# Altium schematic symbol library ARCOM_Resistors.SchLib: 194 symbols (part 2 of 3)
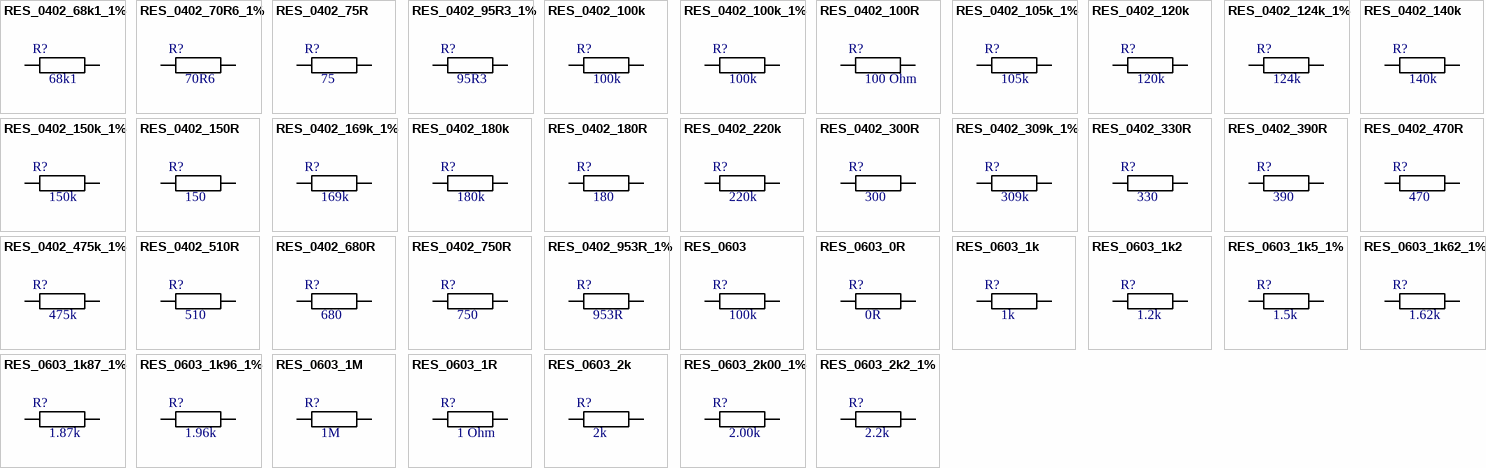
[diagram p5: symbols RES_0402_68k1_1% to RES_0603_2k2_1%]

## RES_0603_1M
designator R?  value 1M  (hidden comment: RES_0603_1M)
Chip Resistor 0603  Size; Manufacturer: Cal-Chip Electronics Inc.; Manufacturer P/N: RM06J105CT; Part: 1 Mohm, 5%tol.; ComponentLink1Description: Manufacturer; ComponentLink1URL: http://www.calchip.com; ComponentLink2Description: Datasheet; ComponentLink2URL: https://www.opendatasheets.com/datasheet/rm06j823ct-cal-chip-electronics-25652085.html; Family: Resistor
footprint RESC0603(1608)_L (Chip Resistor, Body 1.6x0.8mm, IPC High Density)
footprint RESC0603(1608)_M (Chip Resistor, Body 1.6x0.8mm, IPC Low Density)
footprint RESC0603(1608)_N (Chip Resistor, Body 1.6x0.8mm, IPC Medium Density)
pins: 1, 2

## RES_0603_1R
designator R?  value 1 Ohm  (hidden comment: RES_0603_1R)
Chip Resistor 0603  Size; Manufacturer: Yageo; Manufacturer P/N: RC0603JR-071RL; Part: 1 Ohm, 5%tol.; Family: Resistor; ComponentLink1Description: Manufacturer; ComponentLink1URL: https://www.yageo.com/en/Home; ComponentLink2Description: Datasheet; ComponentLink2URL: https://www.mouser.com/datasheet/2/447/PYu_RC_Group_51_RoHS_L_10-1664068.pdf
footprint RESC0603(1608)_N (Chip Resistor, Body 1.6x0.8mm, IPC Medium Density)
footprint RESC0603(1608)_L (Chip Resistor, Body 1.6x0.8mm, IPC High Density)
footprint RESC0603(1608)_M (Chip Resistor, Body 1.6x0.8mm, IPC Low Density)
pins: 1, 2

## RES_0603_2k
designator R?  value 2k  (hidden comment: RES_0603_2k)
Chip Resistor 0603  Size; Manufacturer: Cal-Chip Electronics Inc.; Manufacturer P/N: RM06J202CT; Part: 2 Kohm, 5%tol.; ComponentLink1Description: Manufacturer; ComponentLink1URL: http://www.calchip.com; ComponentLink2Description: Datasheet; ComponentLink2URL: https://www.opendatasheets.com/datasheet/rm06j823ct-cal-chip-electronics-25652085.html; Family: Resistor
footprint RESC0603(1608)_L (Chip Resistor, Body 1.6x0.8mm, IPC High Density)
footprint RESC0603(1608)_M (Chip Resistor, Body 1.6x0.8mm, IPC Low Density)
footprint RESC0603(1608)_N (Chip Resistor, Body 1.6x0.8mm, IPC Medium Density)
pins: 1, 2

## RES_0603_2k00_1%
designator R?  value 2.00k  (hidden comment: RES_0603_2k00_1%)
Chip Resistor 0603  Size; Manufacturer: Cal-Chip Electronics Inc.; Manufacturer P/N: RM06F2001CT-LF; Part: 2.00 Kohm, 1%tol.; ComponentLink1Description: Manufacturer; ComponentLink1URL: http://www.calchip.com; ComponentLink2Description: Datasheet; ComponentLink2URL: https://www.opendatasheets.com/datasheet/rm06j823ct-cal-chip-electronics-25652085.html; Family: Resistor
footprint RESC0603(1608)_L (Chip Resistor, Body 1.6x0.8mm, IPC High Density)
footprint RESC0603(1608)_M (Chip Resistor, Body 1.6x0.8mm, IPC Low Density)
footprint RESC0603(1608)_N (Chip Resistor, Body 1.6x0.8mm, IPC Medium Density)
pins: 1, 2

## RES_0603_2k2_1%
designator R?  value 2.2k  (hidden comment: RES_0603_2k2_1%)
Chip Resistor 0603  Size; Manufacturer: Cal-Chip Electronics Inc.; Manufacturer P/N: RM06F2201CT-LF; Part: 2.2 Kohm, 1%tol.; ComponentLink1Description: Manufacturer; ComponentLink1URL: http://www.calchip.com; ComponentLink2Description: Datasheet; ComponentLink2URL: https://www.opendatasheets.com/datasheet/rm06j823ct-cal-chip-electronics-25652085.html; Family: Resistor
footprint RESC0603(1608)_L (Chip Resistor, Body 1.6x0.8mm, IPC High Density)
footprint RESC0603(1608)_M (Chip Resistor, Body 1.6x0.8mm, IPC Low Density)
footprint RESC0603(1608)_N (Chip Resistor, Body 1.6x0.8mm, IPC Medium Density)
pins: 1, 2

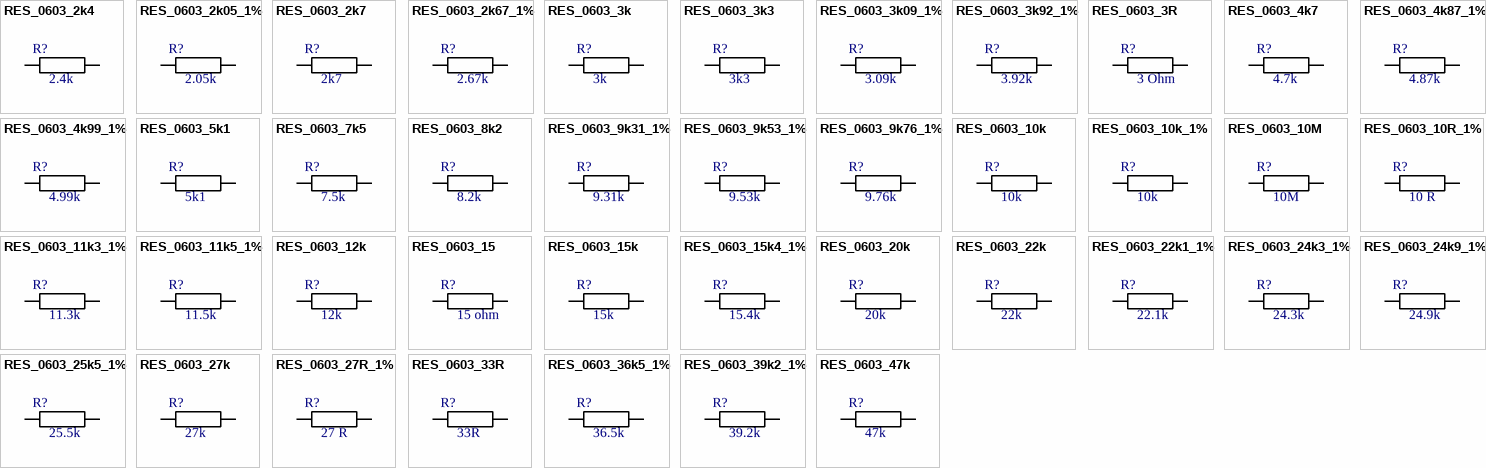
[diagram p2: symbols RES_0603_2k4 to RES_0603_47k]

## RES_0603_2k4
designator R?  value 2.4k  (hidden comment: RES_0603_2k4)
Chip Resistor 0603  Size; Manufacturer: Cal-Chip Electronics Inc.; Manufacturer P/N: RM06J242CT; Part: 2.4 Kohm, 5%tol.; ComponentLink1Description: Manufacturer; ComponentLink1URL: http://www.calchip.com; ComponentLink2Description: Datasheet; ComponentLink2URL: https://www.opendatasheets.com/datasheet/rm06j823ct-cal-chip-electronics-25652085.html; Family: Resistor
footprint RESC0603(1608)_L (Chip Resistor, Body 1.6x0.8mm, IPC High Density)
footprint RESC0603(1608)_M (Chip Resistor, Body 1.6x0.8mm, IPC Low Density)
footprint RESC0603(1608)_N (Chip Resistor, Body 1.6x0.8mm, IPC Medium Density)
pins: 1, 2

## RES_0603_2k05_1%
designator R?  value 2.05k  (hidden comment: RES_0603_2k05_1%)
Chip Resistor 0603  Size; Manufacturer: Cal-Chip Electronics Inc.; Manufacturer P/N: RM06F2051CT-LF; Part: 2.05 Kohm, 1%tol.; ComponentLink1Description: Manufacturer; ComponentLink1URL: http://www.calchip.com; ComponentLink2Description: Datasheet; ComponentLink2URL: https://www.opendatasheets.com/datasheet/rm06j823ct-cal-chip-electronics-25652085.html; Family: Resistor
footprint RESC0603(1608)_L (Chip Resistor, Body 1.6x0.8mm, IPC High Density)
footprint RESC0603(1608)_M (Chip Resistor, Body 1.6x0.8mm, IPC Low Density)
footprint RESC0603(1608)_N (Chip Resistor, Body 1.6x0.8mm, IPC Medium Density)
pins: 1, 2

## RES_0603_2k7
designator R?  value 2k7  (hidden comment: RES_0603_2k7)
Chip Resistor 0603  Size; Manufacturer: Cal-Chip Electronics Inc.; Manufacturer P/N: RM06J272CT; Part: 2.7 kohm, 5%tol.; ComponentLink1Description: Manufacturer; ComponentLink1URL: http://www.calchip.com; ComponentLink2Description: Datasheet; ComponentLink2URL: https://www.opendatasheets.com/datasheet/rm06j823ct-cal-chip-electronics-25652085.html; Family: Resistor
footprint RESC0603(1608)_L (Chip Resistor, Body 1.6x0.8mm, IPC High Density)
footprint RESC0603(1608)_M (Chip Resistor, Body 1.6x0.8mm, IPC Low Density)
footprint RESC0603(1608)_N (Chip Resistor, Body 1.6x0.8mm, IPC Medium Density)
pins: 1, 2

## RES_0603_2k67_1%
designator R?  value 2.67k  (hidden comment: RES_0603_2k67_1%)
Chip Resistor 0603  Size; Manufacturer: Cal-Chip Electronics Inc.; Manufacturer P/N: RM06F2671CT-LF; Part: 2.67 Kohm, 1%tol.; ComponentLink1Description: Manufacturer; ComponentLink1URL: http://www.calchip.com; ComponentLink2Description: Datasheet; ComponentLink2URL: https://www.opendatasheets.com/datasheet/rm06j823ct-cal-chip-electronics-25652085.html; Family: Resistor
footprint RESC0603(1608)_L (Chip Resistor, Body 1.6x0.8mm, IPC High Density)
footprint RESC0603(1608)_M (Chip Resistor, Body 1.6x0.8mm, IPC Low Density)
footprint RESC0603(1608)_N (Chip Resistor, Body 1.6x0.8mm, IPC Medium Density)
pins: 1, 2

## RES_0603_3k
designator R?  value 3k  (hidden comment: RES_0603_3k)
Chip Resistor 0603  Size; Manufacturer: Cal-Chip Electronics Inc.; Manufacturer P/N: RM06J302CT; Part: 3 kohm, 5%tol.; ComponentLink1Description: Manufacturer; ComponentLink1URL: http://www.calchip.com; ComponentLink2Description: Datasheet; ComponentLink2URL: https://www.opendatasheets.com/datasheet/rm06j823ct-cal-chip-electronics-25652085.html; Family: Resistor
footprint RESC0603(1608)_L (Chip Resistor, Body 1.6x0.8mm, IPC High Density)
footprint RESC0603(1608)_M (Chip Resistor, Body 1.6x0.8mm, IPC Low Density)
footprint RESC0603(1608)_N (Chip Resistor, Body 1.6x0.8mm, IPC Medium Density)
pins: 1, 2

## RES_0603_3k3
designator R?  value 3k3  (hidden comment: RES_0603_3k3)
Chip Resistor 0603  Size; Manufacturer: Cal-Chip Electronics Inc.; Manufacturer P/N: RM06J332CT; Part: 3.3 kohm, 5%tol.; ComponentLink1Description: Manufacturer; ComponentLink1URL: http://www.calchip.com; ComponentLink2Description: Datasheet; ComponentLink2URL: https://www.opendatasheets.com/datasheet/rm06j823ct-cal-chip-electronics-25652085.html; Family: Resistor
footprint RESC0603(1608)_L (Chip Resistor, Body 1.6x0.8mm, IPC High Density)
footprint RESC0603(1608)_M (Chip Resistor, Body 1.6x0.8mm, IPC Low Density)
footprint RESC0603(1608)_N (Chip Resistor, Body 1.6x0.8mm, IPC Medium Density)
pins: 1, 2

## RES_0603_3k09_1%
designator R?  value 3.09k  (hidden comment: RES_0603_3k09_1%)
Chip Resistor 0603  Size; Manufacturer: Cal-Chip Electronics Inc.; Manufacturer P/N: RM06F3091CT-LF; Part: 3.09 Kohm, 1%tol.; ComponentLink1Description: Manufacturer; ComponentLink1URL: http://www.calchip.com; ComponentLink2Description: Datasheet; ComponentLink2URL: https://www.opendatasheets.com/datasheet/rm06j823ct-cal-chip-electronics-25652085.html; Family: Resistor
footprint RESC0603(1608)_L (Chip Resistor, Body 1.6x0.8mm, IPC High Density)
footprint RESC0603(1608)_M (Chip Resistor, Body 1.6x0.8mm, IPC Low Density)
footprint RESC0603(1608)_N (Chip Resistor, Body 1.6x0.8mm, IPC Medium Density)
pins: 1, 2

## RES_0603_3k92_1%
designator R?  value 3.92k  (hidden comment: RES_0603_3k92_1%)
Chip Resistor 0603  Size; Manufacturer: Cal-Chip Electronics Inc.; Manufacturer P/N: RM06F3921CT-LF; Part: 3.92 Kohm, 1%tol.; ComponentLink1Description: Manufacturer; ComponentLink1URL: http://www.calchip.com; ComponentLink2Description: Datasheet; ComponentLink2URL: https://www.opendatasheets.com/datasheet/rm06j823ct-cal-chip-electronics-25652085.html; Family: Resistor
footprint RESC0603(1608)_L (Chip Resistor, Body 1.6x0.8mm, IPC High Density)
footprint RESC0603(1608)_M (Chip Resistor, Body 1.6x0.8mm, IPC Low Density)
footprint RESC0603(1608)_N (Chip Resistor, Body 1.6x0.8mm, IPC Medium Density)
pins: 1, 2

## RES_0603_3R
designator R?  value 3 Ohm  (hidden comment: RES_0603_3R)
Chip Resistor 0603  Size; Manufacturer: Yageo; Manufacturer P/N: RC0603JR-073RL; Part: 3 Ohm, 5%tol.; Family: Resistor; ComponentLink1Description: Manufacturer; ComponentLink1URL: https://www.yageo.com/en/Home; ComponentLink2Description: Datasheet; ComponentLink2URL: https://www.mouser.com/datasheet/2/447/PYu_RC_Group_51_RoHS_L_10-1664068.pdf
footprint RESC0603(1608)_N (Chip Resistor, Body 1.6x0.8mm, IPC Medium Density)
footprint RESC0603(1608)_L (Chip Resistor, Body 1.6x0.8mm, IPC High Density)
footprint RESC0603(1608)_M (Chip Resistor, Body 1.6x0.8mm, IPC Low Density)
pins: 1, 2

## RES_0603_4k7
designator R?  value 4.7k  (hidden comment: RES_0603_4k7)
Chip Resistor 0603  Size; Manufacturer: Cal-Chip Electronics Inc.; Manufacturer P/N: RM06J472CT; Part: 4.7 kohm, 5%tol.; ComponentLink1Description: Manufacturer; ComponentLink1URL: http://www.calchip.com; ComponentLink2Description: Datasheet; ComponentLink2URL: https://www.opendatasheets.com/datasheet/rm06j823ct-cal-chip-electronics-25652085.html; Family: Resistor
footprint RESC0603(1608)_L (Chip Resistor, Body 1.6x0.8mm, IPC High Density)
footprint RESC0603(1608)_M (Chip Resistor, Body 1.6x0.8mm, IPC Low Density)
footprint RESC0603(1608)_N (Chip Resistor, Body 1.6x0.8mm, IPC Medium Density)
pins: 1, 2

## RES_0603_4k87_1%
designator R?  value 4.87k  (hidden comment: RES_0603_4k87_1%)
Chip Resistor 0603  Size; Manufacturer: Cal-Chip Electronics Inc.; Manufacturer P/N: RM06F4871CT-LF; Part: 4.87 Kohm, 1%tol.; ComponentLink1Description: Manufacturer; ComponentLink1URL: http://www.calchip.com; ComponentLink2Description: Datasheet; ComponentLink2URL: https://www.opendatasheets.com/datasheet/rm06j823ct-cal-chip-electronics-25652085.html; Family: Resistor
footprint RESC0603(1608)_L (Chip Resistor, Body 1.6x0.8mm, IPC High Density)
footprint RESC0603(1608)_M (Chip Resistor, Body 1.6x0.8mm, IPC Low Density)
footprint RESC0603(1608)_N (Chip Resistor, Body 1.6x0.8mm, IPC Medium Density)
pins: 1, 2

## RES_0603_4k99_1%
designator R?  value 4.99k  (hidden comment: RES_0603_4k99_1%)
Chip Resistor 0603  Size; Manufacturer: Cal-Chip Electronics Inc.; Manufacturer P/N: RM06F4991CT-LF; Part: 4.99 Kohm, 1%tol.; ComponentLink1Description: Manufacturer; ComponentLink1URL: http://www.calchip.com; ComponentLink2Description: Datasheet; ComponentLink2URL: https://www.opendatasheets.com/datasheet/rm06j823ct-cal-chip-electronics-25652085.html; Family: Resistor
footprint RESC0603(1608)_L (Chip Resistor, Body 1.6x0.8mm, IPC High Density)
footprint RESC0603(1608)_M (Chip Resistor, Body 1.6x0.8mm, IPC Low Density)
footprint RESC0603(1608)_N (Chip Resistor, Body 1.6x0.8mm, IPC Medium Density)
pins: 1, 2

## RES_0603_5k1
designator R?  value 5k1  (hidden comment: RES_0603_5k1)
Chip Resistor 0603  Size; Manufacturer: Cal-Chip Electronics Inc.; Manufacturer P/N: RM06J512CT; Part: 5.1 Kohm, 5%tol.; ComponentLink1Description: Manufacturer; ComponentLink1URL: http://www.calchip.com; ComponentLink2Description: Datasheet; ComponentLink2URL: https://www.opendatasheets.com/datasheet/rm06j823ct-cal-chip-electronics-25652085.html; Family: Resistor
footprint RESC0603(1608)_L (Chip Resistor, Body 1.6x0.8mm, IPC High Density)
footprint RESC0603(1608)_M (Chip Resistor, Body 1.6x0.8mm, IPC Low Density)
footprint RESC0603(1608)_N (Chip Resistor, Body 1.6x0.8mm, IPC Medium Density)
pins: 1, 2

## RES_0603_7k5
designator R?  value 7.5k  (hidden comment: RES_0603_7k5)
Chip Resistor 0603  Size; Manufacturer: Cal-Chip Electronics Inc.; Manufacturer P/N: RM06J752CT; Part: 7.5 kohm, 5%tol.; ComponentLink1Description: Manufacturer; ComponentLink1URL: http://www.calchip.com; ComponentLink2Description: Datasheet; ComponentLink2URL: https://www.opendatasheets.com/datasheet/rm06j823ct-cal-chip-electronics-25652085.html; Family: Resistor
footprint RESC0603(1608)_L (Chip Resistor, Body 1.6x0.8mm, IPC High Density)
footprint RESC0603(1608)_M (Chip Resistor, Body 1.6x0.8mm, IPC Low Density)
footprint RESC0603(1608)_N (Chip Resistor, Body 1.6x0.8mm, IPC Medium Density)
pins: 1, 2

## RES_0603_8k2
designator R?  value 8.2k  (hidden comment: RES_0603_8k2)
Chip Resistor 0603  Size; Manufacturer: Cal-Chip Electronics Inc.; Manufacturer P/N: RM06J822CT; Part: 8.2 kohm, 5%tol.; ComponentLink1Description: Manufacturer; ComponentLink1URL: http://www.calchip.com; ComponentLink2Description: Datasheet; ComponentLink2URL: https://www.opendatasheets.com/datasheet/rm06j823ct-cal-chip-electronics-25652085.html; Family: Resistor
footprint RESC0603(1608)_L (Chip Resistor, Body 1.6x0.8mm, IPC High Density)
footprint RESC0603(1608)_M (Chip Resistor, Body 1.6x0.8mm, IPC Low Density)
footprint RESC0603(1608)_N (Chip Resistor, Body 1.6x0.8mm, IPC Medium Density)
pins: 1, 2

## RES_0603_9k31_1%
designator R?  value 9.31k  (hidden comment: RES_0603_9k31_1%)
Chip Resistor 0603  Size; Manufacturer: Cal-Chip Electronics Inc.; Manufacturer P/N: RM06F9311CT-LF; Part: 9.31 Kohm, 1%tol.; ComponentLink1Description: Manufacturer; ComponentLink1URL: http://www.calchip.com; ComponentLink2Description: Datasheet; ComponentLink2URL: https://www.opendatasheets.com/datasheet/rm06j823ct-cal-chip-electronics-25652085.html; Family: Resistor
footprint RESC0603(1608)_L (Chip Resistor, Body 1.6x0.8mm, IPC High Density)
footprint RESC0603(1608)_M (Chip Resistor, Body 1.6x0.8mm, IPC Low Density)
footprint RESC0603(1608)_N (Chip Resistor, Body 1.6x0.8mm, IPC Medium Density)
pins: 1, 2

## RES_0603_9k53_1%
designator R?  value 9.53k  (hidden comment: RES_0603_9k53_1%)
Chip Resistor 0603  Size; Manufacturer: Cal-Chip Electronics Inc.; Manufacturer P/N: RM06F9531CT-LF; Part: 9.53 Kohm, 1%tol.; ComponentLink1Description: Manufacturer; ComponentLink1URL: http://www.calchip.com; ComponentLink2Description: Datasheet; ComponentLink2URL: https://www.opendatasheets.com/datasheet/rm06j823ct-cal-chip-electronics-25652085.html; Family: Resistor
footprint RESC0603(1608)_L (Chip Resistor, Body 1.6x0.8mm, IPC High Density)
footprint RESC0603(1608)_M (Chip Resistor, Body 1.6x0.8mm, IPC Low Density)
footprint RESC0603(1608)_N (Chip Resistor, Body 1.6x0.8mm, IPC Medium Density)
pins: 1, 2

## RES_0603_9k76_1%
designator R?  value 9.76k  (hidden comment: RES_0603_9k76_1%)
Chip Resistor 0603  Size; Manufacturer: Cal-Chip Electronics Inc.; Manufacturer P/N: RM06F9761CT-LF; Part: 9.76 Kohm, 1%tol.; ComponentLink1Description: Manufacturer; ComponentLink1URL: http://www.calchip.com; ComponentLink2Description: Datasheet; ComponentLink2URL: https://www.opendatasheets.com/datasheet/rm06j823ct-cal-chip-electronics-25652085.html; Family: Resistor
footprint RESC0603(1608)_L (Chip Resistor, Body 1.6x0.8mm, IPC High Density)
footprint RESC0603(1608)_M (Chip Resistor, Body 1.6x0.8mm, IPC Low Density)
footprint RESC0603(1608)_N (Chip Resistor, Body 1.6x0.8mm, IPC Medium Density)
pins: 1, 2

## RES_0603_10k
designator R?  value 10k  (hidden comment: RES_0603_10k)
Chip Resistor 0603  Size; Manufacturer: Cal-Chip Electronics Inc.; Manufacturer P/N: RM06J103CT; Part: 10 Kohm, 5%tol.; ComponentLink1Description: Manufacturer; ComponentLink1URL: http://www.calchip.com; ComponentLink2Description: Datasheet; ComponentLink2URL: https://www.opendatasheets.com/datasheet/rm06j823ct-cal-chip-electronics-25652085.html; Family: Resistor
footprint RESC0603(1608)_L (Chip Resistor, Body 1.6x0.8mm, IPC High Density)
footprint RESC0603(1608)_M (Chip Resistor, Body 1.6x0.8mm, IPC Low Density)
footprint RESC0603(1608)_N (Chip Resistor, Body 1.6x0.8mm, IPC Medium Density)
pins: 1, 2

## RES_0603_10k_1%
designator R?  value 10k  (hidden comment: RES_0603_10k_1%)
Chip Resistor 0603  Size; Manufacturer: Cal-Chip Electronics Inc.; Manufacturer P/N: RM06F1002CT-LF; Part: 10 Kohm, 1%tol.; ComponentLink1Description: Manufacturer; ComponentLink1URL: http://www.calchip.com; ComponentLink2Description: Datasheet; ComponentLink2URL: https://www.opendatasheets.com/datasheet/rm06j823ct-cal-chip-electronics-25652085.html; Family: Resistor
footprint RESC0603(1608)_L (Chip Resistor, Body 1.6x0.8mm, IPC High Density)
footprint RESC0603(1608)_M (Chip Resistor, Body 1.6x0.8mm, IPC Low Density)
footprint RESC0603(1608)_N (Chip Resistor, Body 1.6x0.8mm, IPC Medium Density)
pins: 1, 2

## RES_0603_10M
designator R?  value 10M  (hidden comment: RES_0603_10M)
Chip Resistor 0603  Size; Manufacturer: Cal-Chip Electronics Inc.; Manufacturer P/N: RM06J106CT; Part: 10 Mohm, 5%tol.; ComponentLink1Description: Manufacturer; ComponentLink1URL: http://www.calchip.com; ComponentLink2Description: Datasheet; ComponentLink2URL: https://www.opendatasheets.com/datasheet/rm06j823ct-cal-chip-electronics-25652085.html; Family: Resistor
footprint RESC0603(1608)_L (Chip Resistor, Body 1.6x0.8mm, IPC High Density)
footprint RESC0603(1608)_M (Chip Resistor, Body 1.6x0.8mm, IPC Low Density)
footprint RESC0603(1608)_N (Chip Resistor, Body 1.6x0.8mm, IPC Medium Density)
pins: 1, 2

## RES_0603_10R_1%
designator R?  value 10 R  (hidden comment: RES_0603_10R_1%)
Chip Resistor 0603  Size; Manufacturer: Cal-Chip Electronics Inc.; Manufacturer P/N: RM06F10R0CT-LF; Part: 10 ohm, 1%tol.; ComponentLink1Description: Manufacturer; ComponentLink1URL: http://www.calchip.com; ComponentLink2Description: Datasheet; ComponentLink2URL: https://www.opendatasheets.com/datasheet/rm06j823ct-cal-chip-electronics-25652085.html; Family: Resistor
footprint RESC0603(1608)_L (Chip Resistor, Body 1.6x0.8mm, IPC High Density)
footprint RESC0603(1608)_M (Chip Resistor, Body 1.6x0.8mm, IPC Low Density)
footprint RESC0603(1608)_N (Chip Resistor, Body 1.6x0.8mm, IPC Medium Density)
pins: 1, 2

## RES_0603_11k3_1%
designator R?  value 11.3k  (hidden comment: RES_0603_11k3_1%)
Chip Resistor 0603  Size; Manufacturer: Cal-Chip Electronics Inc.; Manufacturer P/N: RM06F1132CT-LF; Part: 11.3 Kohm, 1%tol.; ComponentLink1Description: Manufacturer; ComponentLink1URL: http://www.calchip.com; ComponentLink2Description: Datasheet; ComponentLink2URL: https://www.opendatasheets.com/datasheet/rm06j823ct-cal-chip-electronics-25652085.html; Family: Resistor
footprint RESC0603(1608)_L (Chip Resistor, Body 1.6x0.8mm, IPC High Density)
footprint RESC0603(1608)_M (Chip Resistor, Body 1.6x0.8mm, IPC Low Density)
footprint RESC0603(1608)_N (Chip Resistor, Body 1.6x0.8mm, IPC Medium Density)
pins: 1, 2

## RES_0603_11k5_1%
designator R?  value 11.5k  (hidden comment: RES_0603_11k5_1%)
Chip Resistor 0603  Size; Manufacturer: Cal-Chip Electronics Inc.; Manufacturer P/N: RM06F1152CT-LF; Part: 11.5 Kohm, 1%tol.; ComponentLink1Description: Manufacturer; ComponentLink1URL: http://www.calchip.com; ComponentLink2Description: Datasheet; ComponentLink2URL: https://www.opendatasheets.com/datasheet/rm06j823ct-cal-chip-electronics-25652085.html; Family: Resistor
footprint RESC0603(1608)_L (Chip Resistor, Body 1.6x0.8mm, IPC High Density)
footprint RESC0603(1608)_M (Chip Resistor, Body 1.6x0.8mm, IPC Low Density)
footprint RESC0603(1608)_N (Chip Resistor, Body 1.6x0.8mm, IPC Medium Density)
pins: 1, 2

## RES_0603_12k
designator R?  value 12k  (hidden comment: RES_0603_12k)
Chip Resistor 0603  Size; Manufacturer: Cal-Chip Electronics Inc.; Manufacturer P/N: RM06J123CT; Part: 12 Kohm, 5%tol.; ComponentLink1Description: Manufacturer; ComponentLink1URL: http://www.calchip.com; ComponentLink2Description: Datasheet; ComponentLink2URL: https://www.opendatasheets.com/datasheet/rm06j823ct-cal-chip-electronics-25652085.html; Family: Resistor
footprint RESC0603(1608)_L (Chip Resistor, Body 1.6x0.8mm, IPC High Density)
footprint RESC0603(1608)_M (Chip Resistor, Body 1.6x0.8mm, IPC Low Density)
footprint RESC0603(1608)_N (Chip Resistor, Body 1.6x0.8mm, IPC Medium Density)
pins: 1, 2

## RES_0603_15
designator R?  value 15 ohm  (hidden comment: RES_0603_15)
Chip Resistor 0603  Size; Manufacturer: Cal-Chip Electronics Inc.; Manufacturer P/N: RM06J150CT; Part: 15 ohm, 5%tol.; ComponentLink1Description: Manufacturer; ComponentLink1URL: http://www.calchip.com; ComponentLink2Description: Datasheet; ComponentLink2URL: https://www.opendatasheets.com/datasheet/rm06j823ct-cal-chip-electronics-25652085.html; Family: Resistor
footprint RESC0603(1608)_L (Chip Resistor, Body 1.6x0.8mm, IPC High Density)
footprint RESC0603(1608)_M (Chip Resistor, Body 1.6x0.8mm, IPC Low Density)
footprint RESC0603(1608)_N (Chip Resistor, Body 1.6x0.8mm, IPC Medium Density)
pins: 1, 2

## RES_0603_15k
designator R?  value 15k  (hidden comment: RES_0603_15k)
Chip Resistor 0603  Size; Manufacturer: Cal-Chip Electronics Inc.; Manufacturer P/N: RM06J153CT; Part: 15 kOhm, 5%tol.; ComponentLink1Description: Manufacturer; ComponentLink1URL: http://www.calchip.com; ComponentLink2Description: Datasheet; ComponentLink2URL: https://www.opendatasheets.com/datasheet/rm06j823ct-cal-chip-electronics-25652085.html; Family: Resistor
footprint RESC0603(1608)_L (Chip Resistor, Body 1.6x0.8mm, IPC High Density)
footprint RESC0603(1608)_M (Chip Resistor, Body 1.6x0.8mm, IPC Low Density)
footprint RESC0603(1608)_N (Chip Resistor, Body 1.6x0.8mm, IPC Medium Density)
pins: 1, 2

## RES_0603_15k4_1%
designator R?  value 15.4k  (hidden comment: RES_0603_15k4_1%)
Chip Resistor 0603  Size; Manufacturer: Cal-Chip Electronics Inc.; Manufacturer P/N: RM06F1542CT-LF; Part: 15.4 Kohm, 1%tol.; ComponentLink1Description: Manufacturer; ComponentLink1URL: http://www.calchip.com; ComponentLink2Description: Datasheet; ComponentLink2URL: https://www.opendatasheets.com/datasheet/rm06j823ct-cal-chip-electronics-25652085.html; Family: Resistor
footprint RESC0603(1608)_L (Chip Resistor, Body 1.6x0.8mm, IPC High Density)
footprint RESC0603(1608)_M (Chip Resistor, Body 1.6x0.8mm, IPC Low Density)
footprint RESC0603(1608)_N (Chip Resistor, Body 1.6x0.8mm, IPC Medium Density)
pins: 1, 2

## RES_0603_20k
designator R?  value 20k  (hidden comment: RES_0603_20k)
Chip Resistor 0603  Size; Manufacturer: Cal-Chip Electronics Inc.; Manufacturer P/N: RM06J203CT; Part: 20 Kohm, 5%tol.; ComponentLink1Description: Manufacturer; ComponentLink1URL: http://www.calchip.com; ComponentLink2Description: Datasheet; ComponentLink2URL: https://www.opendatasheets.com/datasheet/rm06j823ct-cal-chip-electronics-25652085.html; Family: Resistor
footprint RESC0603(1608)_L (Chip Resistor, Body 1.6x0.8mm, IPC High Density)
footprint RESC0603(1608)_M (Chip Resistor, Body 1.6x0.8mm, IPC Low Density)
footprint RESC0603(1608)_N (Chip Resistor, Body 1.6x0.8mm, IPC Medium Density)
pins: 1, 2

## RES_0603_22k
designator R?  value 22k  (hidden comment: RES_0603_22k)
Chip Resistor 0603  Size; Manufacturer: Cal-Chip Electronics Inc.; Manufacturer P/N: RM06J223CT; Part: 22 Kohm, 5%tol.; ComponentLink1Description: Manufacturer; ComponentLink1URL: http://www.calchip.com; ComponentLink2Description: Datasheet; ComponentLink2URL: https://www.opendatasheets.com/datasheet/rm06j823ct-cal-chip-electronics-25652085.html; Family: Resistor
footprint RESC0603(1608)_L (Chip Resistor, Body 1.6x0.8mm, IPC High Density)
footprint RESC0603(1608)_M (Chip Resistor, Body 1.6x0.8mm, IPC Low Density)
footprint RESC0603(1608)_N (Chip Resistor, Body 1.6x0.8mm, IPC Medium Density)
pins: 1, 2

## RES_0603_22k1_1%
designator R?  value 22.1k  (hidden comment: RES_0603_22k1_1%)
Chip Resistor 0603  Size; Manufacturer: Cal-Chip Electronics Inc.; Manufacturer P/N: RM06F2212CT-LF; Part: 22.1 Kohm, 1%tol.; ComponentLink1Description: Manufacturer; ComponentLink1URL: http://www.calchip.com; ComponentLink2Description: Datasheet; ComponentLink2URL: https://www.opendatasheets.com/datasheet/rm06j823ct-cal-chip-electronics-25652085.html; Family: Resistor
footprint RESC0603(1608)_L (Chip Resistor, Body 1.6x0.8mm, IPC High Density)
footprint RESC0603(1608)_M (Chip Resistor, Body 1.6x0.8mm, IPC Low Density)
footprint RESC0603(1608)_N (Chip Resistor, Body 1.6x0.8mm, IPC Medium Density)
pins: 1, 2

## RES_0603_24k3_1%
designator R?  value 24.3k  (hidden comment: RES_0603_24k3_1%)
Chip Resistor 0603  Size; Manufacturer: Cal-Chip Electronics Inc.; Manufacturer P/N: RM06F2432CT-LF; Part: 24.3 Kohm, 1%tol.; ComponentLink1Description: Manufacturer; ComponentLink1URL: http://www.calchip.com; ComponentLink2Description: Datasheet; ComponentLink2URL: https://www.opendatasheets.com/datasheet/rm06j823ct-cal-chip-electronics-25652085.html; Family: Resistor
footprint RESC0603(1608)_L (Chip Resistor, Body 1.6x0.8mm, IPC High Density)
footprint RESC0603(1608)_M (Chip Resistor, Body 1.6x0.8mm, IPC Low Density)
footprint RESC0603(1608)_N (Chip Resistor, Body 1.6x0.8mm, IPC Medium Density)
pins: 1, 2

## RES_0603_24k9_1%
designator R?  value 24.9k  (hidden comment: RES_0603_24k9_1%)
Chip Resistor 0603  Size; Manufacturer: Cal-Chip Electronics Inc.; Manufacturer P/N: RM06F2492CT-LF; Part: 24.9 Kohm, 1%tol.; ComponentLink1Description: Manufacturer; ComponentLink1URL: http://www.calchip.com; ComponentLink2Description: Datasheet; ComponentLink2URL: https://www.opendatasheets.com/datasheet/rm06j823ct-cal-chip-electronics-25652085.html; Family: Resistor
footprint RESC0603(1608)_L (Chip Resistor, Body 1.6x0.8mm, IPC High Density)
footprint RESC0603(1608)_M (Chip Resistor, Body 1.6x0.8mm, IPC Low Density)
footprint RESC0603(1608)_N (Chip Resistor, Body 1.6x0.8mm, IPC Medium Density)
pins: 1, 2

## RES_0603_25k5_1%
designator R?  value 25.5k  (hidden comment: RES_0603_25k5_1%)
Chip Resistor 0603  Size; Manufacturer: Cal-Chip Electronics Inc.; Manufacturer P/N: RM06F2552CT-LF; Part: 25.5 Kohm, 1%tol.; ComponentLink1Description: Manufacturer; ComponentLink1URL: http://www.calchip.com; ComponentLink2Description: Datasheet; ComponentLink2URL: https://www.opendatasheets.com/datasheet/rm06j823ct-cal-chip-electronics-25652085.html; Family: Resistor
footprint RESC0603(1608)_L (Chip Resistor, Body 1.6x0.8mm, IPC High Density)
footprint RESC0603(1608)_M (Chip Resistor, Body 1.6x0.8mm, IPC Low Density)
footprint RESC0603(1608)_N (Chip Resistor, Body 1.6x0.8mm, IPC Medium Density)
pins: 1, 2

## RES_0603_27k
designator R?  value 27k  (hidden comment: RES_0603_27k)
Chip Resistor 0603  Size; Manufacturer: Cal-Chip Electronics Inc.; Manufacturer P/N: RM06J273CT; Part: 27 kohm, 5%tol.; ComponentLink1Description: Manufacturer; ComponentLink1URL: http://www.calchip.com; ComponentLink2Description: Datasheet; ComponentLink2URL: https://www.opendatasheets.com/datasheet/rm06j823ct-cal-chip-electronics-25652085.html; Family: Resistor
footprint RESC0603(1608)_L (Chip Resistor, Body 1.6x0.8mm, IPC High Density)
footprint RESC0603(1608)_M (Chip Resistor, Body 1.6x0.8mm, IPC Low Density)
footprint RESC0603(1608)_N (Chip Resistor, Body 1.6x0.8mm, IPC Medium Density)
pins: 1, 2

## RES_0603_27R_1%
designator R?  value 27 R  (hidden comment: RES_0603_27R_1%)
Chip Resistor 0603  Size; Manufacturer: Cal-Chip Electronics Inc.; Manufacturer P/N: RM06F27R0CT-LF; Part: 27 ohm, 1%tol.; ComponentLink1Description: Manufacturer; ComponentLink1URL: http://www.calchip.com; ComponentLink2Description: Datasheet; ComponentLink2URL: https://www.opendatasheets.com/datasheet/rm06j823ct-cal-chip-electronics-25652085.html; Family: Resistor
footprint RESC0603(1608)_L (Chip Resistor, Body 1.6x0.8mm, IPC High Density)
footprint RESC0603(1608)_M (Chip Resistor, Body 1.6x0.8mm, IPC Low Density)
footprint RESC0603(1608)_N (Chip Resistor, Body 1.6x0.8mm, IPC Medium Density)
pins: 1, 2

## RES_0603_33R
designator R?  value 33R  (hidden comment: RES_0603_33R)
Chip Resistor 0603  Size; Manufacturer: Cal-Chip Electronics Inc.; Manufacturer P/N: RM06J330CT; Part: 33 ohm, 5%tol.; ComponentLink1Description: Manufacturer; ComponentLink1URL: http://www.calchip.com; ComponentLink2Description: Datasheet; ComponentLink2URL: https://www.opendatasheets.com/datasheet/rm06j823ct-cal-chip-electronics-25652085.html; Family: Resistor
footprint RESC0603(1608)_L (Chip Resistor, Body 1.6x0.8mm, IPC High Density)
footprint RESC0603(1608)_M (Chip Resistor, Body 1.6x0.8mm, IPC Low Density)
footprint RESC0603(1608)_N (Chip Resistor, Body 1.6x0.8mm, IPC Medium Density)
pins: 1, 2

## RES_0603_36k5_1%
designator R?  value 36.5k  (hidden comment: RES_0603_36k5_1%)
Chip Resistor 0603  Size; Manufacturer: Cal-Chip Electronics Inc.; Manufacturer P/N: RM06F3652CT-LF; Part: 36.5 Kohm, 1%tol.; ComponentLink1Description: Manufacturer; ComponentLink1URL: http://www.calchip.com; ComponentLink2Description: Datasheet; ComponentLink2URL: https://www.opendatasheets.com/datasheet/rm06j823ct-cal-chip-electronics-25652085.html; Family: Resistor
footprint RESC0603(1608)_L (Chip Resistor, Body 1.6x0.8mm, IPC High Density)
footprint RESC0603(1608)_M (Chip Resistor, Body 1.6x0.8mm, IPC Low Density)
footprint RESC0603(1608)_N (Chip Resistor, Body 1.6x0.8mm, IPC Medium Density)
pins: 1, 2

## RES_0603_39k2_1%
designator R?  value 39.2k  (hidden comment: RES_0603_39k2_1%)
Chip Resistor 0603  Size; Manufacturer: Cal-Chip Electronics Inc.; Manufacturer P/N: RM06F3922CT-LF; Part: 39.2 Kohm, 1%tol.; ComponentLink1Description: Manufacturer; ComponentLink1URL: http://www.calchip.com; ComponentLink2Description: Datasheet; ComponentLink2URL: https://www.opendatasheets.com/datasheet/rm06j823ct-cal-chip-electronics-25652085.html; Family: Resistor
footprint RESC0603(1608)_L (Chip Resistor, Body 1.6x0.8mm, IPC High Density)
footprint RESC0603(1608)_M (Chip Resistor, Body 1.6x0.8mm, IPC Low Density)
footprint RESC0603(1608)_N (Chip Resistor, Body 1.6x0.8mm, IPC Medium Density)
pins: 1, 2

## RES_0603_47k
designator R?  value 47k  (hidden comment: RES_0603_47k)
Chip Resistor 0603  Size; Manufacturer: Cal-Chip Electronics Inc.; Manufacturer P/N: RM06J473CT; Part: 47 kohm, 5%tol.; ComponentLink1Description: Manufacturer; ComponentLink1URL: http://www.calchip.com; ComponentLink2Description: Datasheet; ComponentLink2URL: https://www.opendatasheets.com/datasheet/rm06j823ct-cal-chip-electronics-25652085.html; Family: Resistor
footprint RESC0603(1608)_L (Chip Resistor, Body 1.6x0.8mm, IPC High Density)
footprint RESC0603(1608)_M (Chip Resistor, Body 1.6x0.8mm, IPC Low Density)
footprint RESC0603(1608)_N (Chip Resistor, Body 1.6x0.8mm, IPC Medium Density)
pins: 1, 2

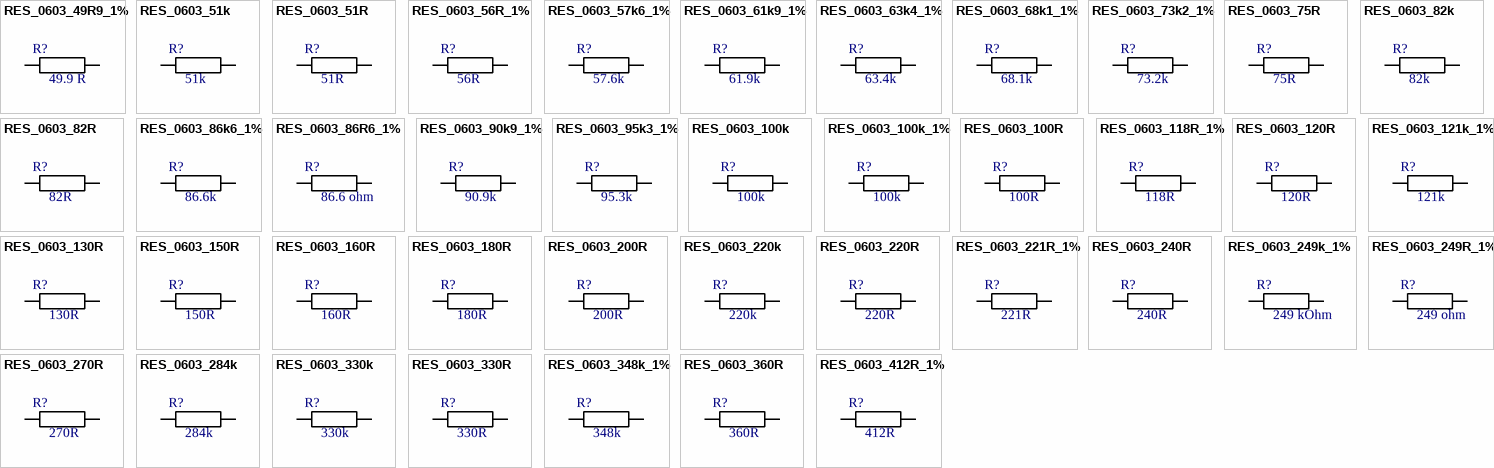
[diagram p3: symbols RES_0603_49R9_1% to RES_0603_412R_1%]

## RES_0603_49R9_1%
designator R?  value 49.9 R  (hidden comment: RES_0603_49R9_1%)
Chip Resistor 0603  Size; Manufacturer: Cal-Chip Electronics Inc.; Manufacturer P/N: RM06F49R9CT-LF; Part: 49.9 ohm, 1%tol.; ComponentLink1Description: Manufacturer; ComponentLink1URL: http://www.calchip.com; ComponentLink2Description: Datasheet; ComponentLink2URL: https://www.opendatasheets.com/datasheet/rm06j823ct-cal-chip-electronics-25652085.html; Family: Resistor
footprint RESC0603(1608)_L (Chip Resistor, Body 1.6x0.8mm, IPC High Density)
footprint RESC0603(1608)_M (Chip Resistor, Body 1.6x0.8mm, IPC Low Density)
footprint RESC0603(1608)_N (Chip Resistor, Body 1.6x0.8mm, IPC Medium Density)
pins: 1, 2

## RES_0603_51k
designator R?  value 51k  (hidden comment: RES_0603_51k)
Chip Resistor 0603  Size; Manufacturer: Cal-Chip Electronics Inc.; Manufacturer P/N: RM06J513CT; Part: 51 kohm, 5%tol.; ComponentLink1Description: Manufacturer; ComponentLink1URL: http://www.calchip.com; ComponentLink2Description: Datasheet; ComponentLink2URL: https://www.opendatasheets.com/datasheet/rm06j823ct-cal-chip-electronics-25652085.html; Family: Resistor
footprint RESC0603(1608)_L (Chip Resistor, Body 1.6x0.8mm, IPC High Density)
footprint RESC0603(1608)_M (Chip Resistor, Body 1.6x0.8mm, IPC Low Density)
footprint RESC0603(1608)_N (Chip Resistor, Body 1.6x0.8mm, IPC Medium Density)
pins: 1, 2

## RES_0603_51R
designator R?  value 51R  (hidden comment: RES_0603_51R)
Chip Resistor 0603  Size; Manufacturer: Cal-Chip Electronics Inc.; Manufacturer P/N: RM06J510CT; Part: 51 ohm, 5%tol.; ComponentLink1Description: Manufacturer; ComponentLink1URL: http://www.calchip.com; ComponentLink2Description: Datasheet; ComponentLink2URL: https://www.opendatasheets.com/datasheet/rm06j823ct-cal-chip-electronics-25652085.html; Family: Resistor
footprint RESC0603(1608)_L (Chip Resistor, Body 1.6x0.8mm, IPC High Density)
footprint RESC0603(1608)_M (Chip Resistor, Body 1.6x0.8mm, IPC Low Density)
footprint RESC0603(1608)_N (Chip Resistor, Body 1.6x0.8mm, IPC Medium Density)
pins: 1, 2

## RES_0603_56R_1%
designator R?  value 56R  (hidden comment: RES_0603_56R_1%)
Chip Resistor 0603  Size; Manufacturer: Cal-Chip Electronics Inc.; Manufacturer P/N: RM06F56R0CT-LF; Part: 56 ohm, 1%tol.; ComponentLink1Description: Manufacturer; ComponentLink1URL: http://www.calchip.com; ComponentLink2Description: Datasheet; ComponentLink2URL: https://www.opendatasheets.com/datasheet/rm06j823ct-cal-chip-electronics-25652085.html; Family: Resistor
footprint RESC0603(1608)_L (Chip Resistor, Body 1.6x0.8mm, IPC High Density)
footprint RESC0603(1608)_M (Chip Resistor, Body 1.6x0.8mm, IPC Low Density)
footprint RESC0603(1608)_N (Chip Resistor, Body 1.6x0.8mm, IPC Medium Density)
pins: 1, 2

## RES_0603_57k6_1%
designator R?  value 57.6k  (hidden comment: RES_0603_57k6_1%)
Chip Resistor 0603  Size; Manufacturer: Cal-Chip Electronics Inc.; Manufacturer P/N: RM06F5762CT-LF; Part: 57.6 Kohm, 1%tol.; ComponentLink1Description: Manufacturer; ComponentLink1URL: http://www.calchip.com; ComponentLink2Description: Datasheet; ComponentLink2URL: https://www.opendatasheets.com/datasheet/rm06j823ct-cal-chip-electronics-25652085.html; Family: Resistor
footprint RESC0603(1608)_L (Chip Resistor, Body 1.6x0.8mm, IPC High Density)
footprint RESC0603(1608)_M (Chip Resistor, Body 1.6x0.8mm, IPC Low Density)
footprint RESC0603(1608)_N (Chip Resistor, Body 1.6x0.8mm, IPC Medium Density)
pins: 1, 2

## RES_0603_61k9_1%
designator R?  value 61.9k  (hidden comment: RES_0603_61k9_1%)
Chip Resistor 0603  Size; Manufacturer: Cal-Chip Electronics Inc.; Manufacturer P/N: RM06F6192CT-LF; Part: 61.9 Kohm, 1%tol.; ComponentLink1Description: Manufacturer; ComponentLink1URL: http://www.calchip.com; ComponentLink2Description: Datasheet; ComponentLink2URL: https://www.opendatasheets.com/datasheet/rm06j823ct-cal-chip-electronics-25652085.html; Family: Resistor
footprint RESC0603(1608)_L (Chip Resistor, Body 1.6x0.8mm, IPC High Density)
footprint RESC0603(1608)_M (Chip Resistor, Body 1.6x0.8mm, IPC Low Density)
footprint RESC0603(1608)_N (Chip Resistor, Body 1.6x0.8mm, IPC Medium Density)
pins: 1, 2

## RES_0603_63k4_1%
designator R?  value 63.4k  (hidden comment: RES_0603_63k4_1%)
Chip Resistor 0603  Size; Manufacturer: Cal-Chip Electronics Inc.; Manufacturer P/N: RM06F6342CT-LF; Part: 63.4 Kohm, 1%tol.; ComponentLink1Description: Manufacturer; ComponentLink1URL: http://www.calchip.com; ComponentLink2Description: Datasheet; ComponentLink2URL: https://www.opendatasheets.com/datasheet/rm06j823ct-cal-chip-electronics-25652085.html; Family: Resistor
footprint RESC0603(1608)_L (Chip Resistor, Body 1.6x0.8mm, IPC High Density)
footprint RESC0603(1608)_M (Chip Resistor, Body 1.6x0.8mm, IPC Low Density)
footprint RESC0603(1608)_N (Chip Resistor, Body 1.6x0.8mm, IPC Medium Density)
pins: 1, 2

## RES_0603_68k1_1%
designator R?  value 68.1k  (hidden comment: RES_0603_68k1_1%)
Chip Resistor 0603  Size; Manufacturer: Cal-Chip Electronics Inc.; Manufacturer P/N: RM06F6812CT-LF; Part: 68.1 Kohm, 1%tol.; ComponentLink1Description: Manufacturer; ComponentLink1URL: http://www.calchip.com; ComponentLink2Description: Datasheet; ComponentLink2URL: https://www.opendatasheets.com/datasheet/rm06j823ct-cal-chip-electronics-25652085.html; Family: Resistor
footprint RESC0603(1608)_L (Chip Resistor, Body 1.6x0.8mm, IPC High Density)
footprint RESC0603(1608)_M (Chip Resistor, Body 1.6x0.8mm, IPC Low Density)
footprint RESC0603(1608)_N (Chip Resistor, Body 1.6x0.8mm, IPC Medium Density)
pins: 1, 2

## RES_0603_73k2_1%
designator R?  value 73.2k  (hidden comment: RES_0603_73k2_1%)
Chip Resistor 0603  Size; Manufacturer: Cal-Chip Electronics Inc.; Manufacturer P/N: RM06F7322CT-LF; Part: 73.2 Kohm, 1%tol.; ComponentLink1Description: Manufacturer; ComponentLink1URL: http://www.calchip.com; ComponentLink2Description: Datasheet; ComponentLink2URL: https://www.opendatasheets.com/datasheet/rm06j823ct-cal-chip-electronics-25652085.html; Family: Resistor
footprint RESC0603(1608)_L (Chip Resistor, Body 1.6x0.8mm, IPC High Density)
footprint RESC0603(1608)_M (Chip Resistor, Body 1.6x0.8mm, IPC Low Density)
footprint RESC0603(1608)_N (Chip Resistor, Body 1.6x0.8mm, IPC Medium Density)
pins: 1, 2

## RES_0603_75R
designator R?  value 75R  (hidden comment: RES_0603_75R)
Chip Resistor 0603  Size; Manufacturer: Cal-Chip Electronics Inc.; Manufacturer P/N: RM06J750CT; Part: 75 ohm, 5%tol.; ComponentLink1Description: Manufacturer; ComponentLink1URL: http://www.calchip.com; ComponentLink2Description: Datasheet; ComponentLink2URL: https://www.opendatasheets.com/datasheet/rm06j823ct-cal-chip-electronics-25652085.html; Family: Resistor
footprint RESC0603(1608)_L (Chip Resistor, Body 1.6x0.8mm, IPC High Density)
footprint RESC0603(1608)_M (Chip Resistor, Body 1.6x0.8mm, IPC Low Density)
footprint RESC0603(1608)_N (Chip Resistor, Body 1.6x0.8mm, IPC Medium Density)
pins: 1, 2

## RES_0603_82k
designator R?  value 82k  (hidden comment: RES_0603_82k)
Chip Resistor 0603  Size; Manufacturer: Cal-Chip Electronics Inc.; Manufacturer P/N: RM06J823CT; Part: 82 Kohm, 5%tol.; ComponentLink1Description: Manufacturer; ComponentLink1URL: http://www.calchip.com; ComponentLink2Description: Datasheet; ComponentLink2URL: https://www.opendatasheets.com/datasheet/rm06j823ct-cal-chip-electronics-25652085.html; Family: Resistor
footprint RESC0603(1608)_L (Chip Resistor, Body 1.6x0.8mm, IPC High Density)
footprint RESC0603(1608)_M (Chip Resistor, Body 1.6x0.8mm, IPC Low Density)
footprint RESC0603(1608)_N (Chip Resistor, Body 1.6x0.8mm, IPC Medium Density)
pins: 1, 2

## RES_0603_82R
designator R?  value 82R  (hidden comment: RES_0603_82R)
Chip Resistor 0603  Size; Manufacturer: Cal-Chip Electronics Inc.; Manufacturer P/N: RM06J820CT; Part: 82 ohm, 5%tol.; ComponentLink1Description: Manufacturer; ComponentLink1URL: http://www.calchip.com; ComponentLink2Description: Datasheet; ComponentLink2URL: https://www.opendatasheets.com/datasheet/rm06j823ct-cal-chip-electronics-25652085.html; Family: Resistor
footprint RESC0603(1608)_L (Chip Resistor, Body 1.6x0.8mm, IPC High Density)
footprint RESC0603(1608)_M (Chip Resistor, Body 1.6x0.8mm, IPC Low Density)
footprint RESC0603(1608)_N (Chip Resistor, Body 1.6x0.8mm, IPC Medium Density)
pins: 1, 2

## RES_0603_86k6_1%
designator R?  value 86.6k  (hidden comment: RES_0603_86k6_1%)
Chip Resistor 0603  Size; Manufacturer: Cal-Chip Electronics Inc.; Manufacturer P/N: RM06F8662CT-LF; Part: 86.6 Kohm, 1%tol.; ComponentLink1Description: Manufacturer; ComponentLink1URL: http://www.calchip.com; ComponentLink2Description: Datasheet; ComponentLink2URL: https://www.opendatasheets.com/datasheet/rm06j823ct-cal-chip-electronics-25652085.html; Family: Resistor
footprint RESC0603(1608)_L (Chip Resistor, Body 1.6x0.8mm, IPC High Density)
footprint RESC0603(1608)_M (Chip Resistor, Body 1.6x0.8mm, IPC Low Density)
footprint RESC0603(1608)_N (Chip Resistor, Body 1.6x0.8mm, IPC Medium Density)
pins: 1, 2

## RES_0603_86R6_1%
designator R?  value 86.6 ohm  (hidden comment: RES_0603_86R6_1%)
Chip Resistor 0603  Size; Manufacturer: Cal-Chip Electronics Inc.; Manufacturer P/N: RM06F86R6CT-LF; Part: 86.6 ohm, 1%tol.; ComponentLink1Description: Manufacturer; ComponentLink1URL: http://www.calchip.com; ComponentLink2Description: Datasheet; ComponentLink2URL: https://www.opendatasheets.com/datasheet/rm06j823ct-cal-chip-electronics-25652085.html; Family: Resistor
footprint RESC0603(1608)_L (Chip Resistor, Body 1.6x0.8mm, IPC High Density)
footprint RESC0603(1608)_M (Chip Resistor, Body 1.6x0.8mm, IPC Low Density)
footprint RESC0603(1608)_N (Chip Resistor, Body 1.6x0.8mm, IPC Medium Density)
pins: 1, 2

## RES_0603_90k9_1%
designator R?  value 90.9k  (hidden comment: RES_0603_90k9_1%)
Chip Resistor 0603  Size; Manufacturer: Cal-Chip Electronics Inc.; Manufacturer P/N: RM06F9092CT-LF; Part: 90.9 Kohm, 1%tol.; ComponentLink1Description: Manufacturer; ComponentLink1URL: http://www.calchip.com; ComponentLink2Description: Datasheet; ComponentLink2URL: https://www.opendatasheets.com/datasheet/rm06j823ct-cal-chip-electronics-25652085.html; Family: Resistor
footprint RESC0603(1608)_L (Chip Resistor, Body 1.6x0.8mm, IPC High Density)
footprint RESC0603(1608)_M (Chip Resistor, Body 1.6x0.8mm, IPC Low Density)
footprint RESC0603(1608)_N (Chip Resistor, Body 1.6x0.8mm, IPC Medium Density)
pins: 1, 2

## RES_0603_95k3_1%
designator R?  value 95.3k  (hidden comment: RES_0603_95k3_1%)
Chip Resistor 0603  Size; Manufacturer: Cal-Chip Electronics Inc.; Manufacturer P/N: RM06F9532CT-LF; Part: 95.3 Kohm, 1%tol.; ComponentLink1Description: Manufacturer; ComponentLink1URL: http://www.calchip.com; ComponentLink2Description: Datasheet; ComponentLink2URL: https://www.opendatasheets.com/datasheet/rm06j823ct-cal-chip-electronics-25652085.html; Family: Resistor
footprint RESC0603(1608)_L (Chip Resistor, Body 1.6x0.8mm, IPC High Density)
footprint RESC0603(1608)_M (Chip Resistor, Body 1.6x0.8mm, IPC Low Density)
footprint RESC0603(1608)_N (Chip Resistor, Body 1.6x0.8mm, IPC Medium Density)
pins: 1, 2

## RES_0603_100k
designator R?  value 100k  (hidden comment: RES_0603_100k)
Chip Resistor 0603  Size; Manufacturer: Cal-Chip Electronics Inc.; Manufacturer P/N: RM06J104CT; Part: 100 Kohm, 5%tol.; ComponentLink1Description: Manufacturer; ComponentLink1URL: http://www.calchip.com; ComponentLink2Description: Datasheet; ComponentLink2URL: https://www.opendatasheets.com/datasheet/rm06j823ct-cal-chip-electronics-25652085.html; Family: Resistor
footprint RESC0603(1608)_L (Chip Resistor, Body 1.6x0.8mm, IPC High Density)
footprint RESC0603(1608)_M (Chip Resistor, Body 1.6x0.8mm, IPC Low Density)
footprint RESC0603(1608)_N (Chip Resistor, Body 1.6x0.8mm, IPC Medium Density)
pins: 1, 2

## RES_0603_100k_1%
designator R?  value 100k  (hidden comment: RES_0603_100k_1%)
Chip Resistor 0603  Size; Manufacturer: Cal-Chip Electronics Inc.; Manufacturer P/N: RM06F1003CT-LF; Part: 100 Kohm, 1%tol.; ComponentLink1Description: Manufacturer; ComponentLink1URL: http://www.calchip.com; ComponentLink2Description: Datasheet; ComponentLink2URL: https://www.opendatasheets.com/datasheet/rm06j823ct-cal-chip-electronics-25652085.html; Family: Resistor
footprint RESC0603(1608)_L (Chip Resistor, Body 1.6x0.8mm, IPC High Density)
footprint RESC0603(1608)_M (Chip Resistor, Body 1.6x0.8mm, IPC Low Density)
footprint RESC0603(1608)_N (Chip Resistor, Body 1.6x0.8mm, IPC Medium Density)
pins: 1, 2

## RES_0603_100R
designator R?  value 100R  (hidden comment: RES_0603_100R)
Chip Resistor 0603  Size; Manufacturer: Cal-Chip Electronics Inc.; Manufacturer P/N: RM06J101CT; Part: 100 Ohm, 5%tol.; ComponentLink1Description: Manufacturer; ComponentLink1URL: http://www.calchip.com; ComponentLink2Description: Datasheet; ComponentLink2URL: https://www.opendatasheets.com/datasheet/rm06j823ct-cal-chip-electronics-25652085.html; Family: Resistor
footprint RESC0603(1608)_L (Chip Resistor, Body 1.6x0.8mm, IPC High Density)
footprint RESC0603(1608)_M (Chip Resistor, Body 1.6x0.8mm, IPC Low Density)
footprint RESC0603(1608)_N (Chip Resistor, Body 1.6x0.8mm, IPC Medium Density)
pins: 1, 2

## RES_0603_118R_1%
designator R?, comment value 118R  (hidden comment: RES_0603_118R)
Chip Resistor 0603  Size; Manufacturer: Cal-Chip Electronics Inc.; Manufacturer P/N: RM06F1180CT; Part: 118 ohm, 1%tol.; ComponentLink1Description: Manufacturer; ComponentLink1URL: http://www.calchip.com; ComponentLink2Description: Datasheet; ComponentLink2URL: https://www.opendatasheets.com/datasheet/rm06j823ct-cal-chip-electronics-25652085.html; Family: Resistor
footprint RESC0603(1608)_L (Chip Resistor, Body 1.6x0.8mm, IPC High Density)
footprint RESC0603(1608)_M (Chip Resistor, Body 1.6x0.8mm, IPC Low Density)
footprint RESC0603(1608)_N (Chip Resistor, Body 1.6x0.8mm, IPC Medium Density)
pins: 1, 2

## RES_0603_120R
designator R?  value 120R  (hidden comment: RES_0603_120R)
Chip Resistor 0603  Size; Manufacturer: Cal-Chip Electronics Inc.; Manufacturer P/N: RM06J121CT; Part: 120 ohm, 5%tol.; ComponentLink1Description: Manufacturer; ComponentLink1URL: http://www.calchip.com; ComponentLink2Description: Datasheet; ComponentLink2URL: https://www.opendatasheets.com/datasheet/rm06j823ct-cal-chip-electronics-25652085.html; Family: Resistor
footprint RESC0603(1608)_L (Chip Resistor, Body 1.6x0.8mm, IPC High Density)
footprint RESC0603(1608)_M (Chip Resistor, Body 1.6x0.8mm, IPC Low Density)
footprint RESC0603(1608)_N (Chip Resistor, Body 1.6x0.8mm, IPC Medium Density)
pins: 1, 2

## RES_0603_121k_1%
designator R?  value 121k  (hidden comment: RES_0603_121k_1%)
Chip Resistor 0603  Size; Manufacturer: Cal-Chip Electronics Inc.; Manufacturer P/N: RM06F1213CT-LF; Part: 121 Kohm, 1%tol.; ComponentLink1Description: Manufacturer; ComponentLink1URL: http://www.calchip.com; ComponentLink2Description: Datasheet; ComponentLink2URL: https://www.opendatasheets.com/datasheet/rm06j823ct-cal-chip-electronics-25652085.html; Family: Resistor
footprint RESC0603(1608)_L (Chip Resistor, Body 1.6x0.8mm, IPC High Density)
footprint RESC0603(1608)_M (Chip Resistor, Body 1.6x0.8mm, IPC Low Density)
footprint RESC0603(1608)_N (Chip Resistor, Body 1.6x0.8mm, IPC Medium Density)
pins: 1, 2

## RES_0603_130R
designator R?  value 130R  (hidden comment: RES_0603_130R)
Chip Resistor 0603  Size; Manufacturer: Cal-Chip Electronics Inc.; Manufacturer P/N: RM06J131CT; Part: 130 ohm, 5%tol.; ComponentLink1Description: Manufacturer; ComponentLink1URL: http://www.calchip.com; ComponentLink2Description: Datasheet; ComponentLink2URL: https://www.opendatasheets.com/datasheet/rm06j823ct-cal-chip-electronics-25652085.html; Family: Resistor
footprint RESC0603(1608)_L (Chip Resistor, Body 1.6x0.8mm, IPC High Density)
footprint RESC0603(1608)_M (Chip Resistor, Body 1.6x0.8mm, IPC Low Density)
footprint RESC0603(1608)_N (Chip Resistor, Body 1.6x0.8mm, IPC Medium Density)
pins: 1, 2

## RES_0603_150R
designator R?  value 150R  (hidden comment: RES_0603_150R)
Chip Resistor 0603  Size; Manufacturer: Cal-Chip Electronics Inc.; Manufacturer P/N: RM06J151CT; Part: 150 Ohm, 5%tol.; ComponentLink1Description: Manufacturer; ComponentLink1URL: http://www.calchip.com; ComponentLink2Description: Datasheet; ComponentLink2URL: https://www.opendatasheets.com/datasheet/rm06j823ct-cal-chip-electronics-25652085.html; Family: Resistor
footprint RESC0603(1608)_L (Chip Resistor, Body 1.6x0.8mm, IPC High Density)
footprint RESC0603(1608)_M (Chip Resistor, Body 1.6x0.8mm, IPC Low Density)
footprint RESC0603(1608)_N (Chip Resistor, Body 1.6x0.8mm, IPC Medium Density)
pins: 1, 2

## RES_0603_160R
designator R?  value 160R  (hidden comment: RES_0603_160R)
Chip Resistor 0603  Size; Manufacturer: Cal-Chip Electronics Inc.; Manufacturer P/N: RM06J161CT; Part: 160 ohm, 5%tol.; ComponentLink1Description: Manufacturer; ComponentLink1URL: http://www.calchip.com; ComponentLink2Description: Datasheet; ComponentLink2URL: https://www.opendatasheets.com/datasheet/rm06j823ct-cal-chip-electronics-25652085.html; Family: Resistor
footprint RESC0603(1608)_L (Chip Resistor, Body 1.6x0.8mm, IPC High Density)
footprint RESC0603(1608)_M (Chip Resistor, Body 1.6x0.8mm, IPC Low Density)
footprint RESC0603(1608)_N (Chip Resistor, Body 1.6x0.8mm, IPC Medium Density)
pins: 1, 2

## RES_0603_180R
designator R?  value 180R  (hidden comment: RES_0603_180R)
Chip Resistor 0603  Size; Manufacturer: Cal-Chip Electronics Inc.; Manufacturer P/N: RM06J181CT; Part: 180 ohm, 5%tol.; ComponentLink1Description: Manufacturer; ComponentLink1URL: http://www.calchip.com; ComponentLink2Description: Datasheet; ComponentLink2URL: https://www.opendatasheets.com/datasheet/rm06j823ct-cal-chip-electronics-25652085.html; Family: Resistor
footprint RESC0603(1608)_L (Chip Resistor, Body 1.6x0.8mm, IPC High Density)
footprint RESC0603(1608)_M (Chip Resistor, Body 1.6x0.8mm, IPC Low Density)
footprint RESC0603(1608)_N (Chip Resistor, Body 1.6x0.8mm, IPC Medium Density)
pins: 1, 2

## RES_0603_200R
designator R?  value 200R  (hidden comment: RES_0603_200R)
Chip Resistor 0603  Size; Manufacturer: Cal-Chip Electronics Inc.; Manufacturer P/N: RM06J201CT; Part: 200 ohm, 5%tol.; ComponentLink1Description: Manufacturer; ComponentLink1URL: http://www.calchip.com; ComponentLink2Description: Datasheet; ComponentLink2URL: https://www.opendatasheets.com/datasheet/rm06j823ct-cal-chip-electronics-25652085.html; Family: Resistor
footprint RESC0603(1608)_L (Chip Resistor, Body 1.6x0.8mm, IPC High Density)
footprint RESC0603(1608)_M (Chip Resistor, Body 1.6x0.8mm, IPC Low Density)
footprint RESC0603(1608)_N (Chip Resistor, Body 1.6x0.8mm, IPC Medium Density)
pins: 1, 2